# Altium schematic symbol library JSTXH-2.54mm-1X2-M-R.Schlib: 1 symbol
Pins are listed as number, name and electrical type; pins without a type are passive.

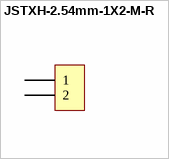
[diagram p0: symbol JSTXH-2.54mm-1X2-M-R]

## JSTXH-2.54mm-1X2-M-R
designator P?
2.54mm Pitch, 1X2 Right Male XH Pin Header
pins: 1, 2